# EAGLE library part WE-RJ45_7499010121A (library 74980104400_Eagle_WE-RJ45_rev19b)
WE-RJ45 LAN Transformer Characteristics RJ45 Connector with integrated transformer / common mode choke Power over Ethernet up to 50 Watt and speeds up to 10 Gbit/s Available in SMD, THT and THT with USB Compliant with standards: IEEE 802.3u, IEEE 802.3ab, IEEE 802.3af, IEEE 802.3at, IEEE 802.3an and upcoming IEE 802.3bt Applications Suitable for industrial temperatures from –40 °C up to +85 °C Compatible to Industrial Ethernet systems like EtherCAT or Profinet Compliant with most IC’s for Ethernet applications such as Microchip, Texas Instruments, Broadcom, Linear Technology Hubs, Routers, Switches, IP cameras, IoT applications <https://katalog.we-online.com/media/images/v2/o35731v209%20Family_WE-RJ45-LAN.jpg> Details see: https://katalog.we-online.com/en/pbs/WE-LAN-RJ45 Updated by Ella Wu 2019-08-05 2019 (C) Wurth Elektronik
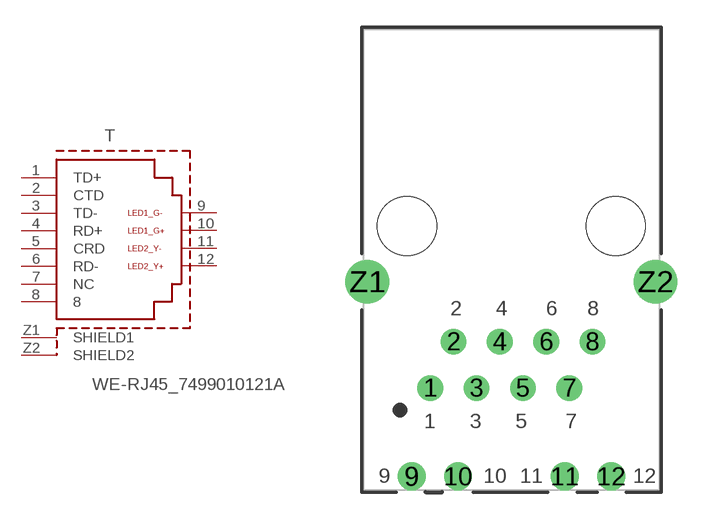
[diagram p37: symbol with the pads of 7499010121A; footprint 7499010121A]

Designator prefix T

## WE-RJ45_7499010121A (DATA-RATE: 10/100 Base-T; DATASHEET-URL: https://katalog.we-online.com/pbs/datasheet/7499010121A.pdf; LED: yellow-green; MOUNT: THT; PART-NUMBER: 7499010121A; POE: non-PoE; PORTS: 1; USB: No)  [7499010121A]
1  TD+
2  CTD
3  TD-
4  RD+
5  CRD
6  RD-
7  NC  pas
8  8
9  LED1_G-
10  LED1_G+
11  LED2_Y-
12  LED2_Y+
Z1  SHIELD1  pwr
Z2  SHIELD2  pwr

## Footprint 7499010121A (pad centres in mm)
WE-RJ45 LAN Transformer 10/100 Base-T
drill 0.9: 1 -4.445,-8.89; 2 -3.175,-6.35; 3 -1.905,-8.89; 4 -0.635,-6.35; 5 0.635,-8.89; 6 1.905,-6.35; 7 3.175,-8.89; 8 4.445,-6.35
drill 1.02: 9 -5.465,-13.72; 10 -2.925,-13.72; 11 2.925,-13.72; 12 5.465,-13.72
drill 1.6: Z1 -7.9,-3.05; Z2 7.9,-3.05
hole 3.25 at -5.715,0
hole 3.25 at 5.715,0